# Altium footprint library Supernova Diodes.PcbLib: 50 footprints (part 3 of 4)
Each footprint in its own frame and in the unit in brackets; x right, y up, seen from the top. Pads: shape width x height; smd on the part's side, far side on the other; paste and mask are expansions set on the pad; w line width, h text height; cw(c..) or ccw(c..) is an arc to the next point about the centre after c.
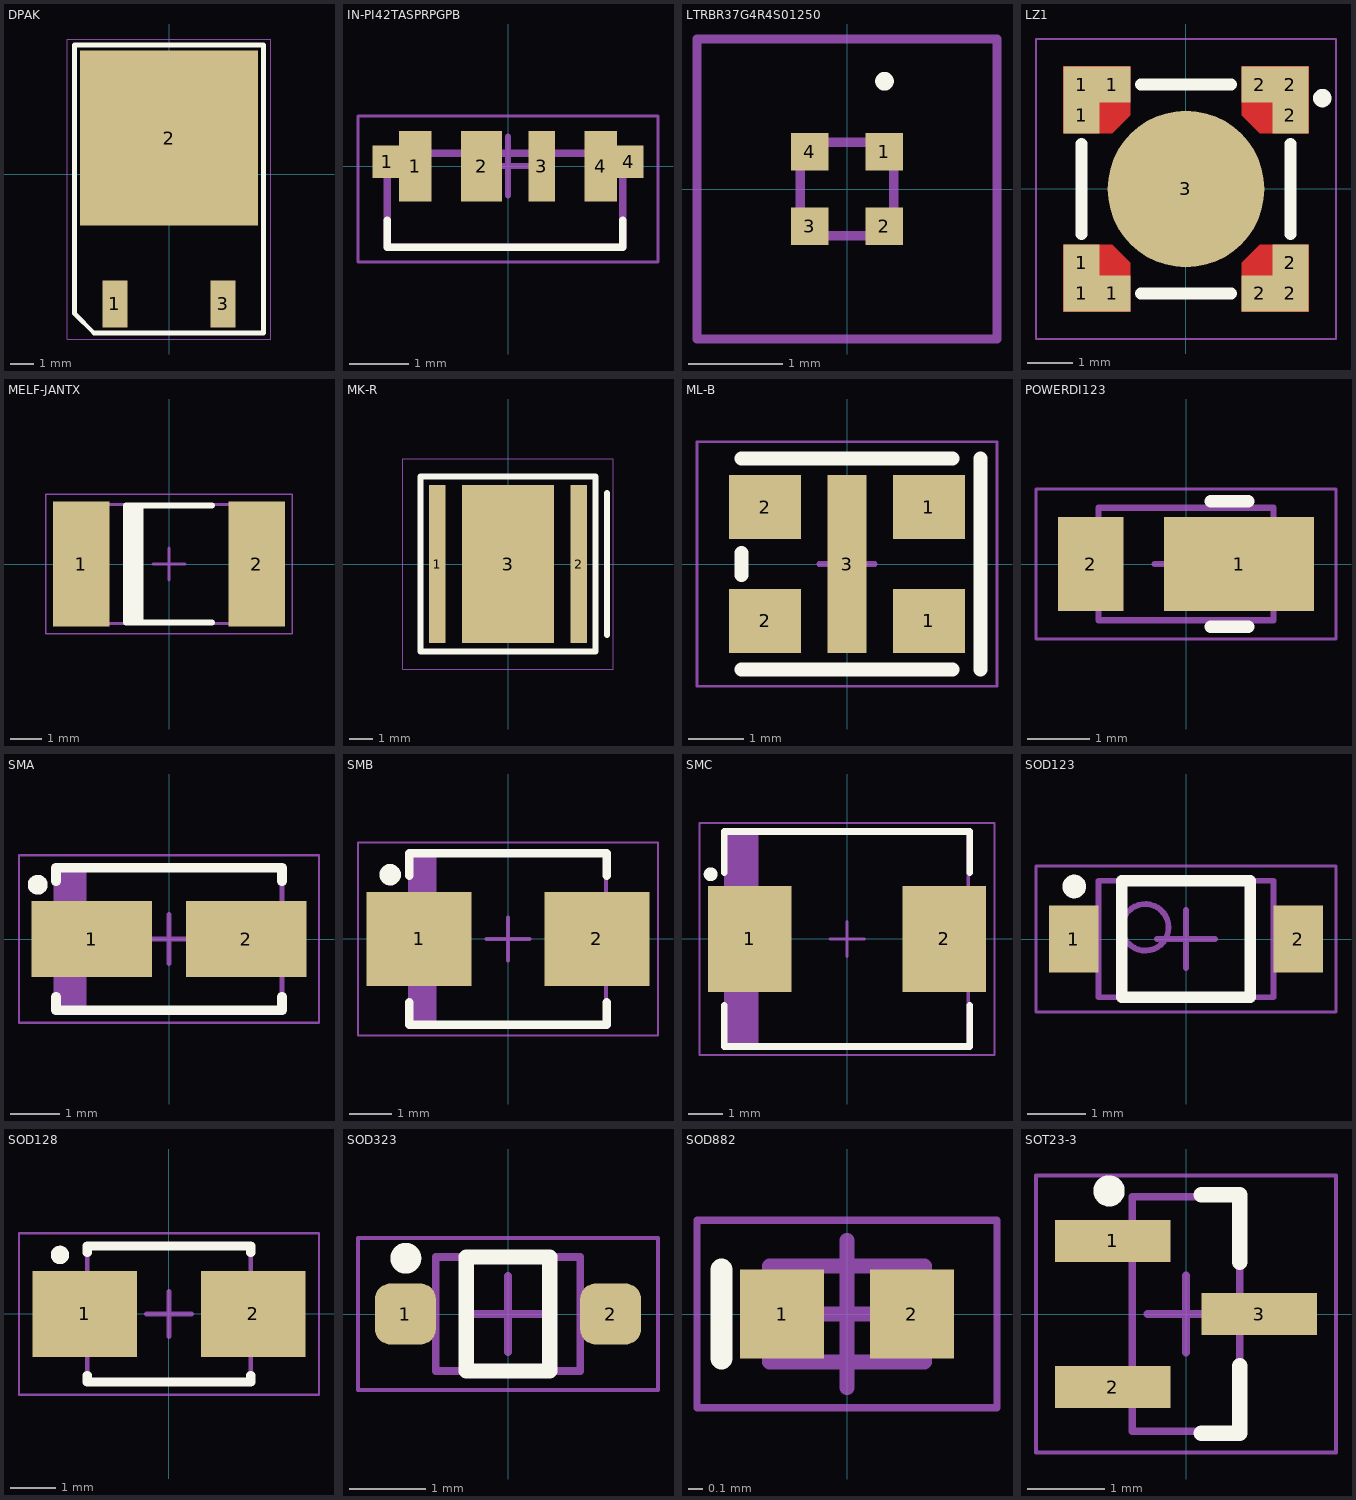
[diagram p2: the footprints below, top view; thin cyan lines are the x and y axes]

## DPAK [mm] "D2-PAK/TO-263-AB; 3 Leads (1 Cropped); Body 15.5 (inc. leads) x 10.5 mm (LxW max)"
height 4.69
pads (3):
  rect 1.05x2 smd: 1(-2.29,-5.5) 3(2.29,-5.5)
  rect 7.55x7.4 smd paste-9: 2(0,1.524)
Top Overlay:
  lines w0.2: -4,-5.906 -3.175,-6.731 ; -4,-5.9 -4,5.461 4,5.461 4,-6.731 -3.169,-6.731
Top Paste:
  region: 0.35,1.8 3.45,1.8 3.45,4.9 0.35,4.9
  region: 0.3,-1.8 3.4,-1.8 3.4,1.3 0.3,1.3
  region: -3.4,-1.8 -0.3,-1.8 -0.3,1.3 -3.4,1.3
  region: -3.4,1.8 -0.3,1.8 -0.3,4.9 -3.4,4.9
Top Courtyard (Mech15):
  lines w0.05: -4.3,-6.985 4.3,-6.985 4.3,5.715 -4.3,5.715 -4.3,-6.985
  lines w0.1: -0.5,0 0.5,0 ; 0,-0.5 0,0.5
3D body "DPAK_TO-252AA.step": height 2.37, standoff -0.03, extent -3.367,-5.082 3.367,5.018

## IN-PI42TASPRPGPB [mm]
height 2.05
pads (6):
  rect 0.5x0.55 smd: 1(-2.05,0.075) 4(2.05,0.075)
  rect 0.55x1.2 smd: 1(-1.575,0) 4(1.575,0)
  rect 0.7x1.2 smd: 2(-0.45,0)
  rect 0.45x1.2 smd: 3(0.575,0)
Top Overlay:
  lines w0.127: -2.05,-0.92 -2.05,-1.38 1.95,-1.38 1.95,-0.92
Top 3D Body (Mech13):
  lines w0.127: -2.05,-1.38 -2.05,0.22 1.95,0.22 1.95,-1.38 -2.05,-1.38
Top Courtyard (Mech15):
  lines w0.05: -2.55,-1.63 2.55,-1.63 2.55,0.85 -2.55,0.85 -2.55,-1.63
  lines w0.1: -0.5,0 0.5,0 ; 0,-0.5 0,0.5
3D body "step_temp.STEP": height 2.05, standoff 0, extent -2.05,-1.33 1.95,0.27

## LTRBR37G4R4S01250 [mm]
pads (4):
  rect 0.4x0.4 smd: 1(0.4,0.4) 2(0.4,-0.4) 3(-0.4,-0.4) 4(-0.4,0.4)
Top Overlay:
  lines w0.1: 0.4,1.1 ccw(c0.4,1.15) 0.4,1.2 ccw(c0.4,1.15) 0.4,1.1
Top 3D Body (Mech13):
  lines w0.1: -0.5,-0.5 -0.5,0.5 0.5,0.5 0.5,-0.5 -0.5,-0.5
Top Courtyard (Mech15):
  lines w0.1: -1.6,-1.6 -1.6,1.6 1.6,1.6 1.6,-1.6 -1.6,-1.6
3D body "LTRBR37G-4R4S-0125-0.stp": height 0.45, standoff 0, extent -0.56,-0.56 0.56,0.56

## LZ1 [mm]
pads (13):
  rect 0.8x0.8 smd mask-0.5: 1(-2.3,-2.3) 1(-2.3,-1.625) 1(-2.3,1.625) 1(-2.3,2.3) 1(-1.625,-2.3) 1(-1.625,2.3) 2(1.625,-2.3) 2(1.625,2.3) 2(2.3,-2.3) 2(2.3,-1.625) 2(2.3,1.625) 2(2.3,2.3)
  round 3.45 smd paste-0.2 mask-0.102: 3(0,0)
Top Layer:
  region: 1.225,2.7 1.225,1.625 1.625,1.225 2.7,1.225 2.7,2.7
  region: 2.7,-1.225 1.625,-1.225 1.225,-1.625 1.225,-2.7 2.7,-2.7
  region: -1.225,-2.7 -1.225,-1.625 -1.625,-1.225 -2.7,-1.225 -2.7,-2.7
  region: -2.7,1.225 -1.625,1.225 -1.225,1.625 -1.225,2.7 -2.7,2.7
Top Overlay:
  circle w0.203: c3,2 r0.102
  lines w0.254: -2.3,-1 -2.3,1 ; -1,-2.3 1,-2.3 ; -1,2.3 1,2.3 ; 2.3,-1 2.3,1
Top Courtyard (Mech15):
  lines w0.05: -3.302,-3.302 -3.302,3.302 3.302,3.302 3.302,-3.302 -3.302,-3.302
  lines w0.1: -0.5,0 0.5,0 ; 0,-0.5 0,0.5
3D body "LZ1-00Ux00-P3_LZ1_RevA2.STEP": height 2.65, standoff 0, extent -2.2,-2.2 2.2,2.2

## MELF-JANTX [mm] "MELF Diode, 2-Leads, Body 5.40x3.62mm, IPC Medium Density"
height 3.76
pads (2):
  rect 1.78x3.94 smd: 1(-2.77,0) 2(2.77,0)
Top Overlay:
  rectangle: -1.35,-1.85 -0.8,1.85
  lines w0.2: 1.35,-1.85 -1.35,-1.85 -1.35,1.85 1.35,1.85
Top 3D Body (Mech13):
  lines w0.1: -2.86,-1.88 2.86,-1.88 2.86,1.88 -2.86,1.88 -2.86,-1.88
Top Courtyard (Mech15):
  lines w0.05: -3.9,-2.2 3.9,-2.2 3.9,2.2 -3.9,2.2 -3.9,-2.2
  lines w0.1: -0.5,0 0.5,0 ; 0,-0.5 0,0.5
3D body: height 3.76, standoff 0, extent 2.15,-1.88 2.86,1.88
3D body: height 3.74, standoff 0.05, extent -2.15,-1.85 2.15,1.85
3D body: height 3.75, standoff 0.04, extent -1.55,-1.851 -0.95,1.851
3D body: height 3.76, standoff 0, extent -2.86,-1.88 -2.15,1.88

## MK-R [mm]
pads (3):
  rect 0.7x6.7 smd: 1(-3,0) 2(3,0)
  rect 3.9x6.7 smd paste-3: 3(0,0)
Top Overlay:
  lines w0.254: 4.2,-3 4.2,3 ; -3.7,-3.7 3.7,-3.7 3.7,3.7 -3.7,3.7 -3.7,-3.7
Top Paste:
  region: -0.1,-0.3 -1.8,-0.3 -1.8,-3 -0.1,-3
  rectangle: 0.1,-3 1.8,-0.3
  region: -0.1,3 -1.8,3 -1.8,0.3 -0.1,0.3
  rectangle: 0.1,0.3 1.8,3
Top Courtyard (Mech15):
  lines w0.05: -4.445,-4.445 4.445,-4.445 4.445,4.445 -4.445,4.445 -4.445,-4.445
  lines w0.1: -0.5,0 0.5,0 ; 0,-0.5 0,0.5
3D body "MKR_3D.stp": height 4.11, standoff 0.02, extent -3.5,-3.5 3.5,3.5

## ML-B [mm]
pads (5):
  rect 1.3x1.15 smd: 1(1.475,-1.025) 1(1.475,1.025) 2(-1.475,-1.025) 2(-1.475,1.025)
  rect 0.7x3.2 smd: 3(0,0)
Top Overlay:
  lines w0.254: -1.9,-1.9 1.9,-1.9 ; -1.9,-0.2 -1.9,0.2 ; -1.9,1.9 1.9,1.9 ; 2.4,-1.9 2.4,1.9
Top Courtyard (Mech15):
  lines w0.05: -2.7,-2.2 2.7,-2.2 2.7,2.2 -2.7,2.2 -2.7,-2.2
  lines w0.1: -0.5,0 0.5,0 ; 0,-0.5 0,0.5
3D body "xlamp_ml-x.stp": height 1.17, standoff -0.03, extent -1.72,-1.756 1.73,1.744

## POWERDI123 [mm] "TSOP, 2-Leads, Body 1.70x2.70mm, Pitch 0.65mm, IPC Low Density"
height 0.98
pads (2):
  rect 2.4x1.5 smd paste-0.1: 1(0.85,0)
  rect 1.05x1.5 smd: 2(-1.525,0)
Top Overlay:
  lines w0.2: 0.4,-1 1,-1 ; 0.4,1 1,1
Top 3D Body (Mech13):
  lines w0.1: -1.4,-0.9 -1.4,0.9 1.4,0.9 1.4,-0.9 -1.4,-0.9
Top Courtyard (Mech15):
  lines w0.05: -2.4,-1.2 -2.4,1.2 2.4,1.2 2.4,-1.2 -2.4,-1.2
  lines w0.1: -0.5,0 0.5,0 ; 0,-0.5 0,0.5
3D body "User Library-POWERDI-123.STEP": height 1, standoff 0, extent -1.95,-0.965 1.95,0.964

## SMA [mm] "Molded Diode, 2-Leads, Body 4.30x2.60mm, IPC Medium Density"
height 2.3
pads (2):
  rect 2.45x1.55 smd paste-0.1: 1(-1.575,0) 2(1.575,0)
Top Overlay:
  circle w0.203: c-2.669,1.103 r0.102
  lines w0.2: -2.3,-1.175 -2.3,-1.45 2.3,-1.45 2.3,-1.175 ; -2.3,1.175 -2.3,1.45 2.3,1.45 2.3,1.175
Top 3D Body (Mech13):
  rectangle: -2.3,-1.45 -1.681,1.45
  lines w0.1: -2.3,-1.45 -2.3,1.45 2.3,1.45 2.3,-1.45 -2.3,-1.45
Top Courtyard (Mech15):
  lines w0.05: -3.05,-1.7 -3.05,1.7 3.05,1.7 3.05,-1.7 -3.05,-1.7
  lines w0.1: -0.5,0 0.5,0 ; 0,-0.5 0,0.5
3D body: height 2.3, standoff 2.2, extent -2.3,-1.45 -1.675,1.45
3D body: height 2.3, standoff 0, extent -1.675,-1.45 2.3,1.45
3D body: height 2.2, standoff 0, extent -2.3,-1.45 -1.675,1.45
3D body: height 1.5, standoff 0, extent -2.475,-0.625 2.5,0.625

## SMB [mm] "Molded Diode, 2-Leads, Body 4.31x3.62mm, IPC Medium Density"
height 2.44
pads (2):
  rect 2.45x2.2 smd: 1(-2.075,0) 2(2.075,0)
Top Overlay:
  circle w0.25: c-2.75,1.5 r0.125
  lines w0.2: -2.3,-1.475 -2.3,-2 2.3,-2 2.3,-1.475 ; -2.3,1.475 -2.3,2 2.3,2 2.3,1.475
Top 3D Body (Mech13):
  rectangle: -2.285,-1.97 -1.67,1.97
  lines w0.1: -2.285,-1.97 -2.285,1.97 2.285,1.97 2.285,-1.97 -2.285,-1.97
Top Courtyard (Mech15):
  lines w0.05: -3.5,-2.25 -3.5,2.25 3.5,2.25 3.5,-2.25 -3.5,-2.25
  lines w0.1: -0.5,0 0.5,0 ; 0,-0.5 0,0.5
3D body "User Library-DO-214AA SMB.step": height 2.3, standoff 0, extent -2.7,-1.8 2.7,1.8

## SMC [mm] "Molded Diode, 2-Leads, Body 6.86x5.91mm, IPC Medium Density"
height 2.5
pads (2):
  rect 2.45x3.1 smd paste-0.15: 1(-2.85,0) 2(2.85,0)
Top Overlay:
  circle w0.203: c-4,1.9 r0.102
  lines w0.2: -3.6,-1.95 -3.6,-3.15 3.6,-3.15 3.6,-1.95 ; -3.6,1.95 -3.6,3.15 3.6,3.15 3.6,1.95
Top 3D Body (Mech13):
  rectangle: -3.555,-3.11 -2.599,3.11
  lines w0.1: -3.555,-3.11 3.555,-3.11 3.555,3.11 -3.555,3.11 -3.555,-3.11
Top Courtyard (Mech15):
  lines w0.05: -4.325,-3.4 4.325,-3.4 4.325,3.4 -4.325,3.4 -4.325,-3.4
  lines w0.1: -0.5,0 0.5,0 ; 0,-0.5 0,0.5
3D body: height 2.4, standoff 0, extent -3.555,-3.11 -2.5,3.11
3D body: height 2.5, standoff 2.4, extent -3.555,-3.11 -2.5,3.11
3D body: height 2.5, standoff 0, extent -2.5,-3.11 3.555,3.11
3D body: height 1.5, standoff 0, extent -3.8,-1 3.8,1

## SOD123 [mm]
height 1.08
pads (2):
  rect 0.85x1.15 smd: 1(-1.925,0) 2(1.925,0)
Top Overlay:
  circle w0.203: c-1.919,0.901 r0.102
  lines w0.2: -1.1,-1 -1.1,1 1.1,1 1.1,-1 -1.1,-1
Top 3D Body (Mech13):
  circle w0.1: c-0.7,0.2 r0.4
  lines w0.1: -1.5,-1 -1.5,1 1.5,1 1.5,-1 -1.5,-1
Top Courtyard (Mech15):
  lines w0.05: -2.575,-1.25 -2.575,1.25 2.575,1.25 2.575,-1.25 -2.575,-1.25
  lines w0.1: -0.5,0 0.5,0 ; 0,-0.5 0,0.5
3D body: height 0.5, standoff 0, extent -2.125,-0.375 2.125,0.375
3D body: height 0.9, standoff 0, extent -1.5,-1 -0.889,1
3D body: height 1.08, standoff 0.9, extent -1.5,-1 -0.889,1
3D body: height 1.08, standoff 0, extent -0.889,-1 1.5,1

## SOD128 [mm] "SODFL, 2-Leads, Body 2.60x5.00mm, IPC Medium Density"
height 1.1
pads (2):
  rect 2.3x1.9 smd paste-0.1: 1(-1.85,0) 2(1.85,0)
Top Overlay:
  circle w0.203: c-2.4,1.3 r0.102
  lines w0.2: -1.8,-1.35 -1.8,-1.5 1.8,-1.5 1.8,-1.35 ; -1.8,1.35 -1.8,1.5 1.8,1.5 1.8,1.35
Top 3D Body (Mech13):
  lines w0.1: -1.8,-1.475 -1.8,1.475 1.8,1.475 1.8,-1.475 -1.8,-1.475
Top Courtyard (Mech15):
  lines w0.05: -3.302,-1.778 -3.302,1.778 3.302,1.778 3.302,-1.778 -3.302,-1.778
  lines w0.1: -0.5,0 0.5,0 ; 0,-0.5 0,0.5
3D body: height 0.5, standoff 0, extent -2.75,-0.75 2.75,0.75
3D body: height 1.1, standoff 0, extent -1.8,-1.475 1.8,1.475

## SOD323 [mm] "TSOP, 2-Leads, Body 1.30x1.75mm, Pitch 0.65mm, IPC Medium Density"
height 1.14
pads (2):
  rrect50% 0.8x0.8 smd: 1(-1.35,0) 2(1.35,0)
Top Overlay:
  circle w0.203: c-1.344,0.734 r0.102
  lines w0.2: -0.55,-0.75 -0.55,0.75 0.55,0.75 0.55,-0.75 -0.55,-0.75
Top 3D Body (Mech13):
  lines w0.1: -0.95,-0.75 -0.95,0.75 0.95,0.75 0.95,-0.75 -0.95,-0.75
Top Courtyard (Mech15):
  lines w0.05: -1.975,-1 -1.975,1 1.975,1 1.975,-1 -1.975,-1
  lines w0.1: -0.5,0 0.5,0 ; 0,-0.5 0,0.5
3D body "User Library-SOD323-1.step": height 1.1, standoff 0, extent -1.3,-0.675 1.3,0.675

## SOD882 [mm] "SODFL, 2-Leads, Body 0.60x0.90mm, IPC Medium Density"
height 0.5
pads (2):
  rect 0.57x0.6 smd mask+0: 1(-0.44,0) 2(0.44,0)
Top Overlay:
  lines w0.15: -0.85,-0.3 -0.85,0.3
Top 3D Body (Mech13):
  lines w0.1: -0.525,-0.325 -0.525,0.325 0.525,0.325 0.525,-0.325 -0.525,-0.325
Top Courtyard (Mech15):
  lines w0.05: -1.016,-0.635 1.016,-0.635 1.016,0.635 -1.016,0.635 -1.016,-0.635
  lines w0.1: -0.5,0 0.5,0 ; 0,-0.5 0,0.5
3D body: height 0.5, standoff 0, extent -0.375,-0.325 0.525,0.325
3D body: height 0.5, standoff 0.4, extent -0.525,-0.325 -0.375,0.325
3D body: height 0.4, standoff 0, extent -0.525,-0.325 -0.375,0.325

## SOT23-3 [mm] "SOT23, 3-Leads, Body 2.90x2.45mm, Pitch 0.95mm, IPC Medium Density"
height 1.45
pads (3):
  rect 1.5x0.55 smd: 1(-0.95,0.95) 2(-0.95,-0.95) 3(0.95,0)
Top Overlay:
  circle w0.203: c-1,1.6 r0.102
  lines w0.2: 0.2,-1.55 0.7,-1.55 0.7,-0.675 ; 0.2,1.55 0.7,1.55 0.7,0.675
Top 3D Body (Mech13):
  lines w0.1: -0.7,-1.525 0.7,-1.525 0.7,1.525 -0.7,1.525 -0.7,-1.525
Top Courtyard (Mech15):
  lines w0.05: -1.95,-1.8 1.95,-1.8 1.95,1.8 -1.95,1.8 -1.95,-1.8
  lines w0.1: -0.5,0 0.5,0 ; 0,-0.5 0,0.5
3D body "CircuitWorks-SOT-23.step": height 1.1, standoff 0, extent -1.25,-1.5 1.25,1.5